# Altium footprint library SOARFootprints.PcbLib: 56 footprints (part 4 of 4)
Each footprint in its own frame and in the unit in brackets; x right, y up, seen from the top. Pads: shape width x height; smd on the part's side, far side on the other; paste and mask are expansions set on the pad; w line width, h text height; cw(c..) or ccw(c..) is an arc to the next point about the centre after c.
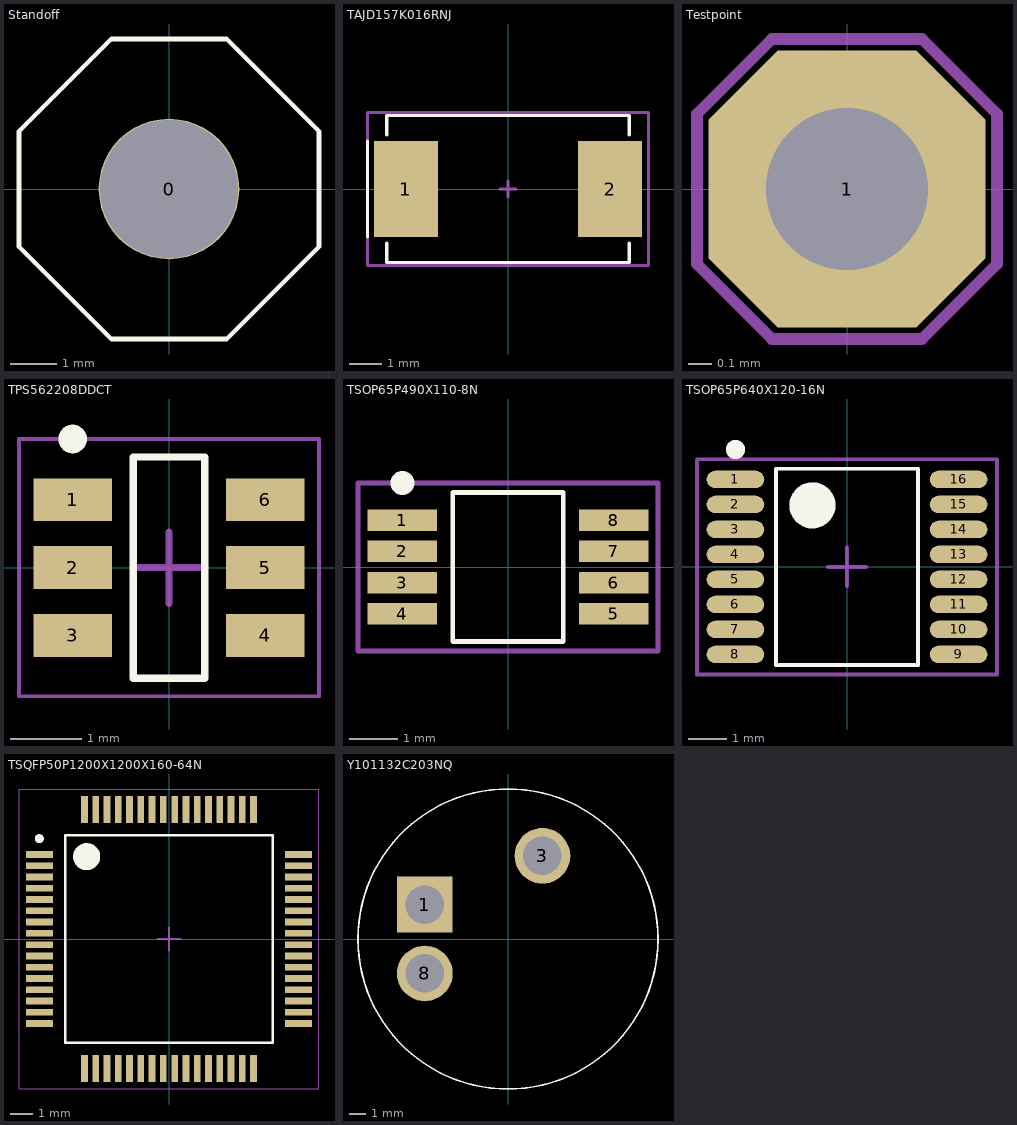
[diagram p3: the footprints below, top view; thin cyan lines are the x and y axes]

## Standoff [mil] "#4, 0.116in"
height 433.07
pads (1):
  round 120 hole 118 unplated mask+1.97: 0(0,0)
Top Overlay:
  lines w3.94: -127.95,-49.21 -127.95,49.21 -49.21,127.95 49.21,127.95 127.95,49.21 127.95,-49.21 49.21,-127.95 -49.21,-127.95 -127.95,-49.21
3D body: height 10, standoff -338.58, extent 0,127.95 0,127.95
3D body: height 433.07, standoff 0, extent -127.95,-127.95 127.95,127.95

## TAJD157K016RNJ [mm] "Tantalum Cap"
height 2.9
pads (2):
  rect 2x3 smd mask+0.05: 1(-3.2,0) 2(3.2,0)
Top Overlay:
  lines w0.1: -4.4,-1.5 -4.4,1.5 ; -3.8,-1.7 -3.8,-2.3 3.8,-2.3 3.8,-1.7 ; -3.8,1.7 -3.8,2.3 3.8,2.3 3.8,1.7
Top Component Outline:
  lines w0.1: -0.25,0 0.25,0 ; 0,-0.25 0,0.25 ; -4.4,-2.4 4.4,-2.4 4.4,2.4 -4.4,2.4 -4.4,-2.4
3D body "TAJD.step": height 3.15, standoff 0, extent -3.746,-2.248 3.746,2.248

## Testpoint [mm] "0.7MMD, 1.2MMW, 1.2MML"
pads (1):
  oct 1.2x1.2 hole 0.7 mask+0.05: 1(0,0)
Top Component Outline:
  lines w0.05: -0.65,-0.325 -0.325,-0.65 0.325,-0.65 0.65,-0.325 0.65,0.325 0.325,0.65 -0.325,0.65 -0.65,0.325 -0.65,-0.325

## TPS562208DDCT [mm] "IC REG BUCK ADJ 2A TSOT23-6"
height 1.1
pads (6):
  rect 1.1x0.6 smd: 1(-1.35,0.95) 2(-1.35,0) 3(-1.35,-0.95) 4(1.35,-0.95) 5(1.35,0) 6(1.35,0.95)
Top Overlay:
  circle w0.2: c-1.35,1.8 r0.1
  lines w0.1: -0.5,-1.55 -0.5,1.55 0.5,1.55 0.5,-1.55 -0.5,-1.55
Top Component Outline:
  lines w0.05: -2.1,-1.8 -2.1,1.8 2.1,1.8 2.1,-1.8 -2.1,-1.8
  lines w0.1: -0.5,0 0.5,0 ; 0,-0.5 0,0.5
3D body "TPS562208DDCT.step": height 1.1, standoff 0, extent -1.249,-1.525 1.249,1.525

## TSOP65P490X110-8N [mm] "TSOP, 8-Leads, Body 3.00x3.00mm, Pitch 0.65mm, IPC Medium Density"
height 1.1
pads (8):
  rect 1.45x0.45 smd mask+0.05: 1(-2.2,0.975) 2(-2.2,0.325) 3(-2.2,-0.325) 4(-2.2,-0.975) 5(2.2,-0.975) 6(2.2,-0.325) 7(2.2,0.325) 8(2.2,0.975)
Top Overlay:
  circle w0.25: c-2.2,1.75 r0.125
  lines w0.1: -1.15,-1.55 -1.15,1.55 1.15,1.55 1.15,-1.55 -1.15,-1.55
Top Component Outline:
  lines w0.1: -3.125,-1.75 -3.125,1.75 3.125,1.75 3.125,-1.75 -3.125,-1.75
3D body "TSOP65P490X110-8N.step": height 1.1, standoff 0, extent -2.45,-1.55 2.45,1.55

## TSOP65P640X120-16N [mm] "TSOP, 16-Leads, Body 5.00x4.40mm, Pitch 0.65mm, IPC Medium Density"
height 1.2
pads (16):
  oval 1.5x0.45 smd mask+0.05: 1(-2.9,2.275) 2(-2.9,1.625) 3(-2.9,0.975) 4(-2.9,0.325) 5(-2.9,-0.325) 6(-2.9,-0.975) 7(-2.9,-1.625) 8(-2.9,-2.275) 9(2.9,-2.275) 10(2.9,-1.625) 11(2.9,-0.975) 12(2.9,-0.325) 13(2.9,0.325) 14(2.9,0.975) 15(2.9,1.625) 16(2.9,2.275)
Top Overlay:
  circle w0.25: c-2.9,3.05 r0.125
  circle w0.6: c-0.9,1.6 r0.3
  lines w0.1: -1.85,-2.55 -1.85,2.55 1.85,2.55 1.85,-2.55 -1.85,-2.55
Top Component Outline:
  lines w0.1: -0.5,0 0.5,0 ; 0,-0.5 0,0.5 ; -3.9,-2.8 3.9,-2.8 3.9,2.8 -3.9,2.8 -3.9,-2.8
3D body "TSOP65P640X120-16N.step": height 1.2, standoff 0, extent -3.2,-2.55 3.2,2.55

## TSQFP50P1200X1200X160-64N [mm] "TSQFP, 64-Leads, Body 10.00x10.00mm, Pitch 0.50mm, IPC Medium Density"
height 1.6
pads (64):
  rect 1.2x0.3 smd mask+0.05: 1(-5.75,3.75) 2(-5.75,3.25) 3(-5.75,2.75) 4(-5.75,2.25) 5(-5.75,1.75) 6(-5.75,1.25) 7(-5.75,0.75) 8(-5.75,0.25) 9(-5.75,-0.25) 10(-5.75,-0.75) 11(-5.75,-1.25) 12(-5.75,-1.75) 13(-5.75,-2.25) 14(-5.75,-2.75) 15(-5.75,-3.25) 16(-5.75,-3.75) 33(5.75,-3.75) 34(5.75,-3.25) 35(5.75,-2.75) 36(5.75,-2.25) 37(5.75,-1.75) 38(5.75,-1.25) 39(5.75,-0.75) 40(5.75,-0.25) 41(5.75,0.25) 42(5.75,0.75) 43(5.75,1.25) 44(5.75,1.75) 45(5.75,2.25) 46(5.75,2.75) 47(5.75,3.25) 48(5.75,3.75)
  rect 0.3x1.2 smd mask+0.05: 17(-3.75,-5.75) 18(-3.25,-5.75) 19(-2.75,-5.75) 20(-2.25,-5.75) 21(-1.75,-5.75) 22(-1.25,-5.75) 23(-0.75,-5.75) 24(-0.25,-5.75) 25(0.25,-5.75) 26(0.75,-5.75) 27(1.25,-5.75) 28(1.75,-5.75) 29(2.25,-5.75) 30(2.75,-5.75) 31(3.25,-5.75) 32(3.75,-5.75) 49(3.75,5.75) 50(3.25,5.75) 51(2.75,5.75) 52(2.25,5.75) 53(1.75,5.75) 54(1.25,5.75) 55(0.75,5.75) 56(0.25,5.75) 57(-0.25,5.75) 58(-0.75,5.75) 59(-1.25,5.75) 60(-1.75,5.75) 61(-2.25,5.75) 62(-2.75,5.75) 63(-3.25,5.75) 64(-3.75,5.75)
Top Overlay:
  circle w0.6: c-3.65,3.65 r0.3
  circle w0.2: c-5.75,4.45 r0.1
  lines w0.1: -4.6,-4.6 4.6,-4.6 4.6,4.6 -4.6,4.6 -4.6,-4.6
Top Component Outline:
  lines w0.05: -6.65,-6.65 6.65,-6.65 6.65,6.65 -6.65,6.65 -6.65,-6.65
  lines w0.1: -0.5,0 0.5,0 ; 0,-0.5 0,0.5
3D body "TSQFP50P1200X1200X160-64N.step": height 1.6, standoff 0, extent -6,-6 6,6

## Y101132C203NQ [mil] "SWITCH KEYLOCK 2POS SPDT 4A 125V"
height 1125.98
pads (3):
  rect 130x130 hole 90 mask+1.97: 1(-194.01,80.36)
  round 130 hole 90 mask+1.97: 3(80.36,194.01) 8(-194.01,-80.36)
Top Overlay:
  circle w3.94: c0,0 r350
3D body "battery key.stp": height 1148.04, standoff -217, extent -457.37,-457.49 457.38,457.51